# Altium integrated library B2B-XH-A.IntLib: 1 symbol
Pins are listed as number, name and electrical type; pins without a type are passive.

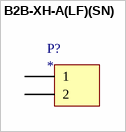
[diagram p0: symbol B2B-XH-A(LF)(SN)]

## B2B-XH-A(LF)(SN)
designator P?
ComponentLink1Description: datasheet; ComponentLink1URL: https://docs.rs-online.com/1f1f/0900766b805aab1f.pdf; ComponentLink2Description: digikey; ComponentLink2URL: https://www.digikey.es/product-detail/es/jst-sales-america-inc/B2B-XH-A-LF-SN/455-2247-ND/1651045
footprint B2B-XH-A(LF)(SN)
pins: 1, 2